# Altium schematic symbol library LIBRARY1_Library.SchLib: 3 symbols
Pins are listed as number, name and electrical type; pins without a type are passive.

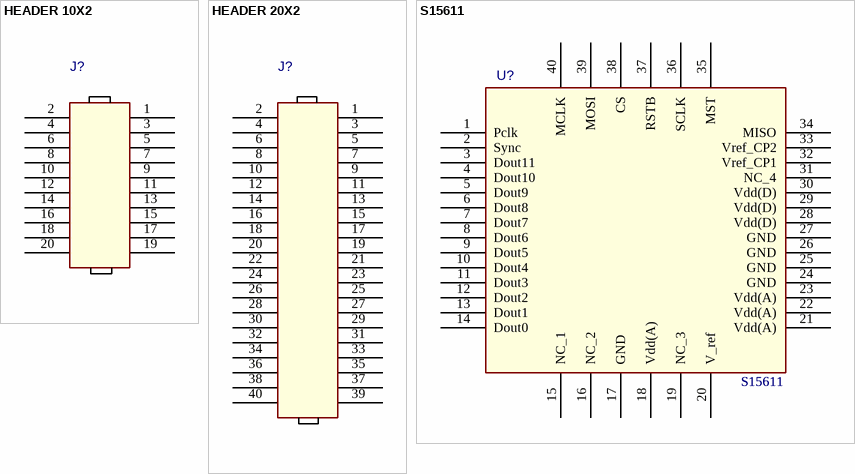
[diagram p0: symbols HEADER 10X2 to S15611]

## HEADER 10X2
designator J?
pins: 1, 2, 3, 4, 5, 6, 7, 8, 9, 10, 11, 12, 13, 14, 15, 16, 17, 18, 19, 20

## HEADER 20X2
designator J?
pins: 1, 2, 3, 4, 5, 6, 7, 8, 9, 10, 11, 12, 13, 14, 15, 16, 17, 18, 19, 20, 21, 22, 23, 24, 25, 26, 27, 28, 29, 30, 31, 32, 33, 34, 35, 36, 37, 38, 39, 40

## S15611
designator U?
Value: S15611
footprint S15611_FP
pins: 1 Pclk, 2 Sync, 3 Dout11, 4 Dout10, 5 Dout9, 6 Dout8, 7 Dout7, 8 Dout6, 9 Dout5, 10 Dout4, 11 Dout3, 12 Dout2, 13 Dout1, 14 Dout0, 15 NC_1, 16 NC_2, 17 GND (power), 18 Vdd(A) (power), 19 NC_3, 20 V_ref, 21 Vdd(A) (power), 22 Vdd(A) (power), 23 Vdd(A) (power), 24 GND (power), 25 GND (power), 26 GND (power), 27 GND (power), 28 Vdd(D) (power), 29 Vdd(D) (power), 30 Vdd(D) (power), 31 NC_4, 32 Vref_CP1, 33 Vref_CP2, 34 MISO, 35 MST, 36 SCLK, 37 RSTB, 38 CS, 39 MOSI, 40 MCLK